# Altium footprint library Capacitor_SMD.PcbLib: 101 footprints (part 6 of 7)
Each footprint in its own frame and in the unit in brackets; x right, y up, seen from the top. Pads: shape width x height; smd on the part's side, far side on the other; paste and mask are expansions set on the pad; w line width, h text height; cw(c..) or ccw(c..) is an arc to the next point about the centre after c.
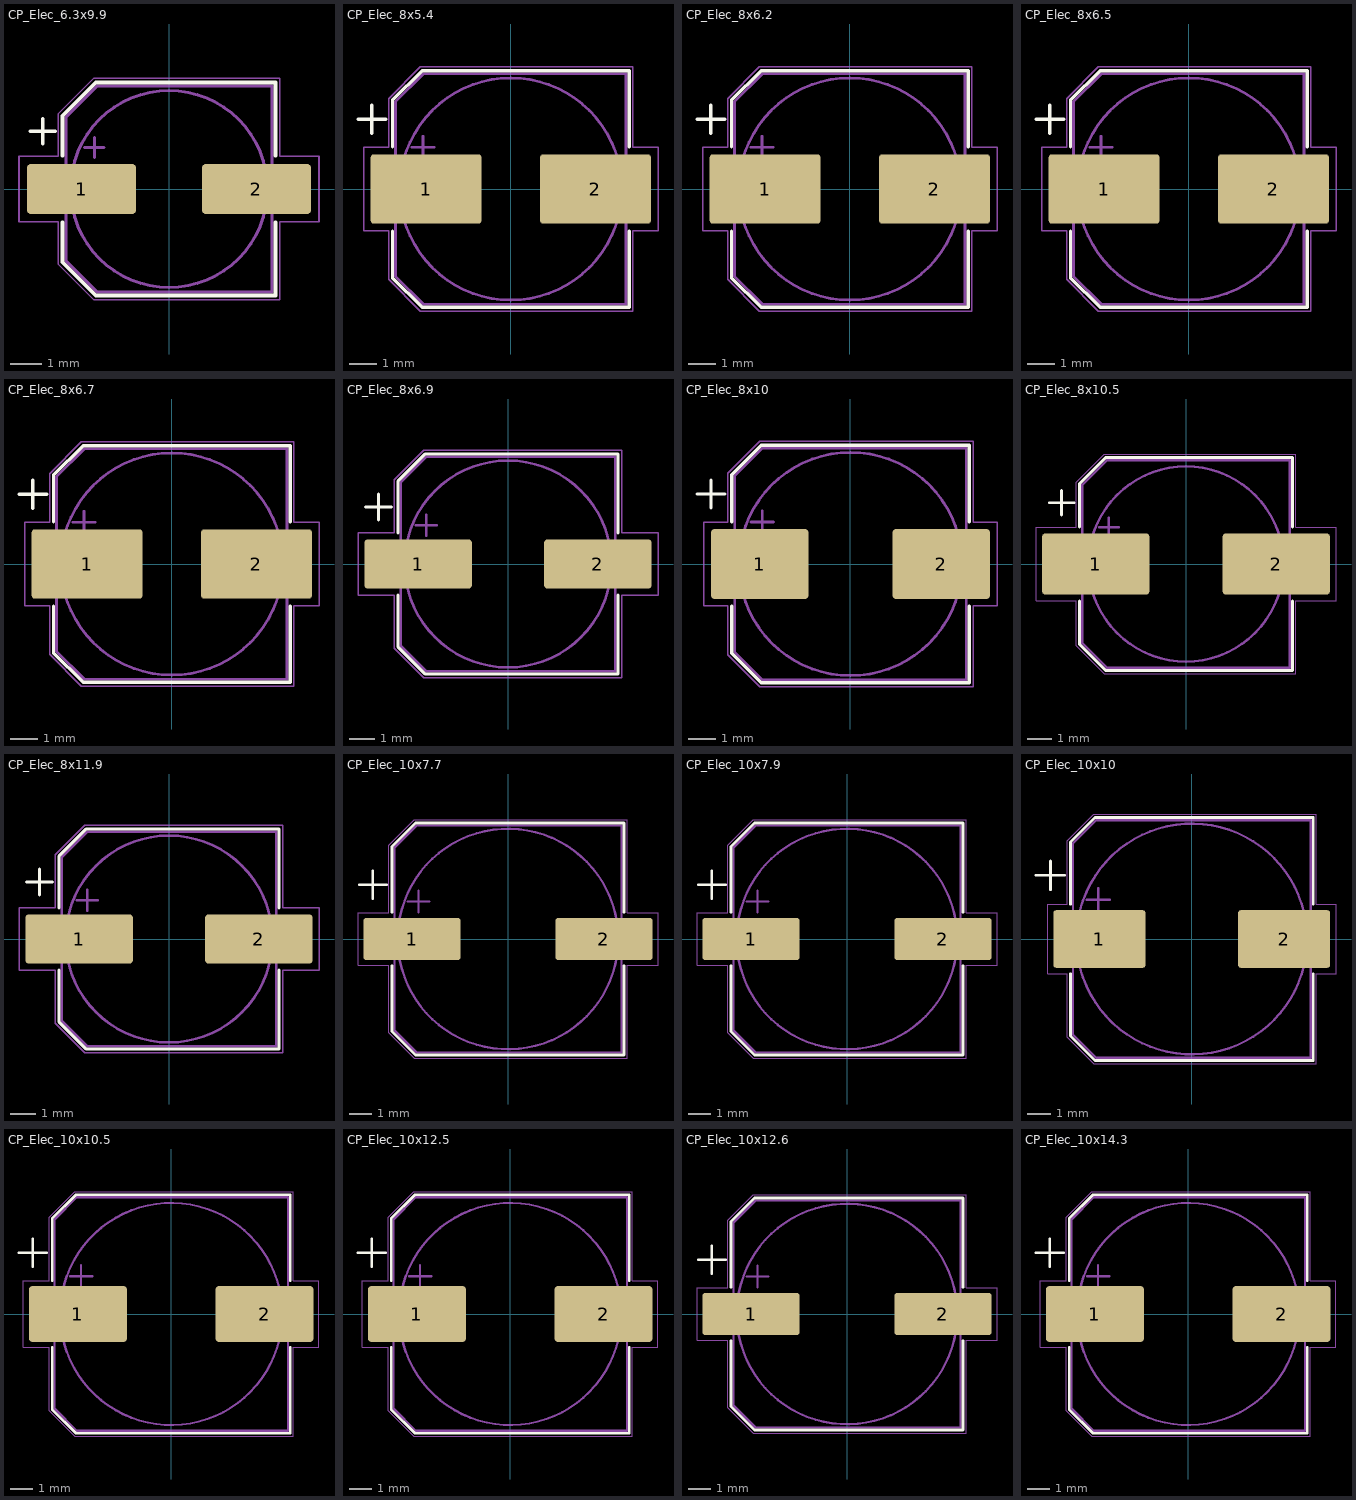
[diagram p5: the footprints below, top view; thin cyan lines are the x and y axes]

## CP_Elec_6.3x9.9 [mm]
pads (2):
  rrect16% 3.5x1.6 smd: 1(-2.8,0) 2(2.8,0)
F.SilkS:
  lines w0.12: -4.437,1.847 -3.65,1.847 ; -4.044,1.454 -4.044,2.241 ; -3.41,-1.06 -3.41,-2.346 -2.346,-3.41 3.41,-3.41 3.41,-1.06 ; -3.41,1.06 -3.41,2.346 -2.346,3.41 3.41,3.41 3.41,1.06
F.CrtYd:
  lines w0.05: -4.8,-1.05 -4.8,1.05 -3.55,1.05 -3.55,2.4 -2.4,3.55 3.55,3.55 3.55,1.05 4.8,1.05 4.8,-1.05 3.55,-1.05 3.55,-3.55 -2.4,-3.55 -3.55,-2.4 -3.55,-1.05 -4.8,-1.05
F.Fab:
  circle w0.1: c0,0 r3.15
  lines w0.1: -2.705,1.33 -2.075,1.33 ; -2.39,1.015 -2.39,1.645 ; -3.3,-2.3 -2.3,-3.3 3.3,-3.3 3.3,3.3 -2.3,3.3 -3.3,2.3 -3.3,-2.3
  text "'.Designator'" at -4.047,-0.84 h1
3D body "CP_Elec_6.3x9.9.step": height 9.9, standoff 0, extent -3.9,-3.3 3.9,3.3

## CP_Elec_8x5.4 [mm]
pads (2):
  rrect10% 4x2.5 smd: 1(-3.05,0) 2(3.05,0)
F.SilkS:
  lines w0.12: -5.5,2.51 -4.5,2.51 ; -5,2.01 -5,3.01 ; -4.26,-1.51 -4.26,-3.196 -3.196,-4.26 4.26,-4.26 4.26,-1.51 ; -4.26,1.51 -4.26,3.196 -3.196,4.26 4.26,4.26 4.26,1.51
F.CrtYd:
  lines w0.05: -5.3,-1.5 -5.3,1.5 -4.4,1.5 -4.4,3.25 -3.25,4.4 4.4,4.4 4.4,1.5 5.3,1.5 5.3,-1.5 4.4,-1.5 4.4,-4.4 -3.25,-4.4 -4.4,-3.25 -4.4,-1.5 -5.3,-1.5
F.Fab:
  circle w0.1: c0,0 r4
  lines w0.1: -3.562,1.5 -2.762,1.5 ; -3.162,1.1 -3.162,1.9 ; -4.15,-3.15 -3.15,-4.15 4.15,-4.15 4.15,4.15 -3.15,4.15 -4.15,3.15 -4.15,-3.15
  text "'.Designator'" at -4.047,-0.84 h1
3D body "CP_Elec_8x5.4.step": height 5.4, standoff 0, extent -4.75,-4.15 4.75,4.15

## CP_Elec_8x6.2 [mm]
pads (2):
  rrect10% 4x2.5 smd: 1(-3.05,0) 2(3.05,0)
F.SilkS:
  lines w0.12: -5.5,2.51 -4.5,2.51 ; -5,2.01 -5,3.01 ; -4.26,-1.51 -4.26,-3.196 -3.196,-4.26 4.26,-4.26 4.26,-1.51 ; -4.26,1.51 -4.26,3.196 -3.196,4.26 4.26,4.26 4.26,1.51
F.CrtYd:
  lines w0.05: -5.3,-1.5 -5.3,1.5 -4.4,1.5 -4.4,3.25 -3.25,4.4 4.4,4.4 4.4,1.5 5.3,1.5 5.3,-1.5 4.4,-1.5 4.4,-4.4 -3.25,-4.4 -4.4,-3.25 -4.4,-1.5 -5.3,-1.5
F.Fab:
  circle w0.1: c0,0 r4
  lines w0.1: -3.562,1.5 -2.762,1.5 ; -3.162,1.1 -3.162,1.9 ; -4.15,-3.15 -3.15,-4.15 4.15,-4.15 4.15,4.15 -3.15,4.15 -4.15,3.15 -4.15,-3.15
  text "'.Designator'" at -4.047,-0.84 h1
3D body "CP_Elec_8x6.2.step": height 6.2, standoff 0, extent -4.75,-4.15 4.75,4.15

## CP_Elec_8x6.5 [mm]
pads (2):
  rrect10% 4x2.5 smd: 1(-3.05,0) 2(3.05,0)
F.SilkS:
  lines w0.12: -5.5,2.51 -4.5,2.51 ; -5,2.01 -5,3.01 ; -4.26,-1.51 -4.26,-3.196 -3.196,-4.26 4.26,-4.26 4.26,-1.51 ; -4.26,1.51 -4.26,3.196 -3.196,4.26 4.26,4.26 4.26,1.51
F.CrtYd:
  lines w0.05: -5.3,-1.5 -4.4,-1.5 -4.4,-3.25 -3.25,-4.4 4.4,-4.4 4.4,-1.5 5.3,-1.5 5.3,1.5 4.4,1.5 4.4,4.4 -3.25,4.4 -4.4,3.25 -4.4,1.5 -5.3,1.5 -5.3,-1.5
F.Fab:
  circle w0.1: c0,0 r4
  lines w0.1: -3.562,1.5 -2.762,1.5 ; -3.162,1.1 -3.162,1.9 ; -4.15,-3.15 -3.15,-4.15 4.15,-4.15 4.15,4.15 -3.15,4.15 -4.15,3.15 -4.15,-3.15
  text "'.Designator'" at -4.047,-0.84 h1
3D body "CP_Elec_8x6.5.step": height 6.5, standoff 0, extent -4.75,-4.15 4.75,4.15

## CP_Elec_8x6.7 [mm]
pads (2):
  rrect10% 4x2.5 smd: 1(-3.05,0) 2(3.05,0)
F.SilkS:
  lines w0.12: -5.5,2.51 -4.5,2.51 ; -5,2.01 -5,3.01 ; -4.26,-1.51 -4.26,-3.196 -3.196,-4.26 4.26,-4.26 4.26,-1.51 ; -4.26,1.51 -4.26,3.196 -3.196,4.26 4.26,4.26 4.26,1.51
F.CrtYd:
  lines w0.05: -5.3,-1.5 -5.3,1.5 -4.4,1.5 -4.4,3.25 -3.25,4.4 4.4,4.4 4.4,1.5 5.3,1.5 5.3,-1.5 4.4,-1.5 4.4,-4.4 -3.25,-4.4 -4.4,-3.25 -4.4,-1.5 -5.3,-1.5
F.Fab:
  circle w0.1: c0,0 r4
  lines w0.1: -3.562,1.5 -2.762,1.5 ; -3.162,1.1 -3.162,1.9 ; -4.15,-3.15 -4.15,3.15 -3.15,4.15 4.15,4.15 4.15,-4.15 -3.15,-4.15 -4.15,-3.15
  text "'.Designator'" at -4.047,-0.84 h1
3D body "CP_Elec_8x6.7.step": height 6.7, standoff 0, extent -4.75,-4.15 4.75,4.15

## CP_Elec_8x6.9 [mm]
pads (2):
  rrect13% 4.15x1.9 smd: 1(-3.475,0) 2(3.475,0)
F.SilkS:
  lines w0.12: -5.5,2.21 -4.5,2.21 ; -5,1.71 -5,2.71 ; -4.26,-1.21 -4.26,-3.196 -3.196,-4.26 4.26,-4.26 4.26,-1.21 ; -4.26,1.21 -4.26,3.196 -3.196,4.26 4.26,4.26 4.26,1.21
F.CrtYd:
  lines w0.05: -5.8,-1.2 -5.8,1.2 -4.4,1.2 -4.4,3.25 -3.25,4.4 4.4,4.4 4.4,1.2 5.8,1.2 5.8,-1.2 4.4,-1.2 4.4,-4.4 -3.25,-4.4 -4.4,-3.25 -4.4,-1.2 -5.8,-1.2
F.Fab:
  circle w0.1: c0,0 r4
  lines w0.1: -3.562,1.5 -2.762,1.5 ; -3.162,1.1 -3.162,1.9 ; -4.15,-3.15 -4.15,3.15 -3.15,4.15 4.15,4.15 4.15,-4.15 -3.15,-4.15 -4.15,-3.15
  text "'.Designator'" at -4.047,-0.84 h1
3D body "CP_Elec_8x6.9.step": height 6.9, standoff 0, extent -4.75,-4.15 4.75,4.15

## CP_Elec_8x10 [mm]
pads (2):
  rrect10% 3.5x2.5 smd: 1(-3.25,0) 2(3.25,0)
F.SilkS:
  lines w0.12: -5.5,2.51 -4.5,2.51 ; -5,2.01 -5,3.01 ; -4.26,-1.51 -4.26,-3.196 -3.196,-4.26 4.26,-4.26 4.26,-1.51 ; -4.26,1.51 -4.26,3.196 -3.196,4.26 4.26,4.26 4.26,1.51
F.CrtYd:
  lines w0.05: -5.25,-1.5 -5.25,1.5 -4.4,1.5 -4.4,3.25 -3.25,4.4 4.4,4.4 4.4,1.5 5.25,1.5 5.25,-1.5 4.4,-1.5 4.4,-4.4 -3.25,-4.4 -4.4,-3.25 -4.4,-1.5 -5.25,-1.5
F.Fab:
  circle w0.1: c0,0 r4
  lines w0.1: -3.562,1.5 -2.762,1.5 ; -3.162,1.1 -3.162,1.9 ; -4.15,-3.15 -3.15,-4.15 4.15,-4.15 4.15,4.15 -3.15,4.15 -4.15,3.15 -4.15,-3.15
  text "'.Designator'" at -4.047,-0.84 h1
3D body "CP_Elec_8x10.step": height 10, standoff 0, extent -4.812,-4.142 4.688,4.158

## CP_Elec_8x10.5 [mm]
pads (2):
  rrect10% 4.4x2.5 smd: 1(-3.7,0) 2(3.7,0)
F.SilkS:
  lines w0.12: -5.6,2.51 -4.6,2.51 ; -5.1,2.01 -5.1,3.01 ; -4.36,-1.51 -4.36,-3.296 -3.296,-4.36 4.36,-4.36 4.36,-1.51 ; -4.36,1.51 -4.36,3.296 -3.296,4.36 4.36,4.36 4.36,1.51
F.CrtYd:
  lines w0.05: -6.15,-1.5 -4.5,-1.5 -4.5,-3.35 -3.35,-4.5 4.5,-4.5 4.5,-1.5 6.15,-1.5 6.15,1.5 4.5,1.5 4.5,4.5 -3.35,4.5 -4.5,3.35 -4.5,1.5 -6.15,1.5 -6.15,-1.5
F.Fab:
  circle w0.1: c0,0 r4
  lines w0.1: -3.562,1.5 -2.762,1.5 ; -3.162,1.1 -3.162,1.9 ; -4.25,-3.25 -4.25,3.25 -3.25,4.25 4.25,4.25 4.25,-4.25 -3.25,-4.25 -4.25,-3.25
  text "'.Designator'" at -4.047,-0.84 h1
3D body "CP_Elec_8x10.5.step": height 10.5, standoff 0, extent -4.75,-4.15 4.75,4.15

## CP_Elec_8x11.9 [mm]
pads (2):
  rrect13% 4.15x1.9 smd: 1(-3.475,0) 2(3.475,0)
F.SilkS:
  lines w0.12: -5.5,2.21 -4.5,2.21 ; -5,1.71 -5,2.71 ; -4.26,-1.21 -4.26,-3.196 -3.196,-4.26 4.26,-4.26 4.26,-1.21 ; -4.26,1.21 -4.26,3.196 -3.196,4.26 4.26,4.26 4.26,1.21
F.CrtYd:
  lines w0.05: -5.8,-1.2 -5.8,1.2 -4.4,1.2 -4.4,3.25 -3.25,4.4 4.4,4.4 4.4,1.2 5.8,1.2 5.8,-1.2 4.4,-1.2 4.4,-4.4 -3.25,-4.4 -4.4,-3.25 -4.4,-1.2 -5.8,-1.2
F.Fab:
  circle w0.1: c0,0 r4
  lines w0.1: -3.562,1.5 -2.762,1.5 ; -3.162,1.1 -3.162,1.9 ; -4.15,-3.15 -4.15,3.15 -3.15,4.15 4.15,4.15 4.15,-4.15 -3.15,-4.15 -4.15,-3.15
  text "'.Designator'" at -4.047,-0.84 h1
3D body "CP_Elec_8x11.9.step": height 11.9, standoff 0, extent -4.75,-4.15 4.75,4.15

## CP_Elec_10x7.7 [mm]
pads (2):
  rrect13% 4.4x1.9 smd: 1(-4.35,0) 2(4.35,0)
F.SilkS:
  lines w0.12: -6.75,2.46 -5.5,2.46 ; -6.125,1.835 -6.125,3.085 ; -5.26,-1.21 -5.26,-4.196 -4.196,-5.26 5.26,-5.26 5.26,-1.21 ; -5.26,1.21 -5.26,4.196 -4.196,5.26 5.26,5.26 5.26,1.21
F.CrtYd:
  lines w0.05: -6.8,-1.2 -6.8,1.2 -5.4,1.2 -5.4,4.25 -4.25,5.4 5.4,5.4 5.4,1.2 6.8,1.2 6.8,-1.2 5.4,-1.2 5.4,-5.4 -4.25,-5.4 -5.4,-4.25 -5.4,-1.2 -6.8,-1.2
F.Fab:
  circle w0.1: c0,0 r5
  lines w0.1: -4.558,1.7 -3.558,1.7 ; -4.058,1.2 -4.058,2.2 ; -5.15,-4.15 -4.15,-5.15 5.15,-5.15 5.15,5.15 -4.15,5.15 -5.15,4.15 -5.15,-4.15
  text "'.Designator'" at -4.047,-0.84 h1
3D body "CP_Elec_10x7.7.step": height 7.7, standoff 0, extent -6,-5.15 6,5.15

## CP_Elec_10x7.9 [mm]
pads (2):
  rrect13% 4.4x1.9 smd: 1(-4.35,0) 2(4.35,0)
F.SilkS:
  lines w0.12: -6.75,2.46 -5.5,2.46 ; -6.125,1.835 -6.125,3.085 ; -5.26,-1.21 -5.26,-4.196 -4.196,-5.26 5.26,-5.26 5.26,-1.21 ; -5.26,1.21 -5.26,4.196 -4.196,5.26 5.26,5.26 5.26,1.21
F.CrtYd:
  lines w0.05: -6.8,-1.2 -6.8,1.2 -5.4,1.2 -5.4,4.25 -4.25,5.4 5.4,5.4 5.4,1.2 6.8,1.2 6.8,-1.2 5.4,-1.2 5.4,-5.4 -4.25,-5.4 -5.4,-4.25 -5.4,-1.2 -6.8,-1.2
F.Fab:
  circle w0.1: c0,0 r5
  lines w0.1: -4.558,1.7 -3.558,1.7 ; -4.058,1.2 -4.058,2.2 ; -5.15,-4.15 -4.15,-5.15 5.15,-5.15 5.15,5.15 -4.15,5.15 -5.15,4.15 -5.15,-4.15
  text "'.Designator'" at -4.047,-0.84 h1
3D body "CP_Elec_10x7.9.step": height 7.9, standoff 0, extent -6,-5.15 6,5.15

## CP_Elec_10x10 [mm]
pads (2):
  rrect10% 4x2.5 smd: 1(-4,0) 2(4,0)
F.SilkS:
  lines w0.12: -6.75,2.76 -5.5,2.76 ; -6.125,2.135 -6.125,3.385 ; -5.26,-1.51 -5.26,-4.196 -4.196,-5.26 5.26,-5.26 5.26,-1.51 ; -5.26,1.51 -5.26,4.196 -4.196,5.26 5.26,5.26 5.26,1.51
F.CrtYd:
  lines w0.05: -6.25,-1.5 -5.4,-1.5 -5.4,-4.25 -4.25,-5.4 5.4,-5.4 5.4,-1.5 6.25,-1.5 6.25,1.5 5.4,1.5 5.4,5.4 -4.25,5.4 -5.4,4.25 -5.4,1.5 -6.25,1.5 -6.25,-1.5
F.Fab:
  circle w0.1: c0,0 r5
  lines w0.1: -4.558,1.7 -3.558,1.7 ; -4.058,1.2 -4.058,2.2 ; -5.15,-4.15 -4.15,-5.15 5.15,-5.15 5.15,5.15 -4.15,5.15 -5.15,4.15 -5.15,-4.15
  text "'.Designator'" at -4.047,-0.84 h1
3D body "CP_Elec_10x10.step": height 10, standoff 0, extent -6,-5.15 6,5.15

## CP_Elec_10x10.5 [mm]
pads (2):
  rrect10% 4.4x2.5 smd: 1(-4.2,0) 2(4.2,0)
F.SilkS:
  lines w0.12: -6.85,2.76 -5.6,2.76 ; -6.225,2.135 -6.225,3.385 ; -5.36,-1.51 -5.36,-4.296 -4.296,-5.36 5.36,-5.36 5.36,-1.51 ; -5.36,1.51 -5.36,4.296 -4.296,5.36 5.36,5.36 5.36,1.51
F.CrtYd:
  lines w0.05: -6.65,-1.5 -6.65,1.5 -5.5,1.5 -5.5,4.35 -4.35,5.5 5.5,5.5 5.5,1.5 6.65,1.5 6.65,-1.5 5.5,-1.5 5.5,-5.5 -4.35,-5.5 -5.5,-4.35 -5.5,-1.5 -6.65,-1.5
F.Fab:
  circle w0.1: c0,0 r5
  lines w0.1: -4.558,1.7 -3.558,1.7 ; -4.058,1.2 -4.058,2.2 ; -5.25,-4.25 -5.25,4.25 -4.25,5.25 5.25,5.25 5.25,-5.25 -4.25,-5.25 -5.25,-4.25
  text "'.Designator'" at -4.047,-0.84 h1
3D body "CP_Elec_10x10.5.step": height 10.5, standoff 0, extent -6,-5.15 6,5.15

## CP_Elec_10x12.5 [mm]
pads (2):
  rrect10% 4.4x2.5 smd: 1(-4.2,0) 2(4.2,0)
F.SilkS:
  lines w0.12: -6.85,2.76 -5.6,2.76 ; -6.225,2.135 -6.225,3.385 ; -5.36,-1.51 -5.36,-4.296 -4.296,-5.36 5.36,-5.36 5.36,-1.51 ; -5.36,1.51 -5.36,4.296 -4.296,5.36 5.36,5.36 5.36,1.51
F.CrtYd:
  lines w0.05: -6.65,-1.5 -5.5,-1.5 -5.5,-4.35 -4.35,-5.5 5.5,-5.5 5.5,-1.5 6.65,-1.5 6.65,1.5 5.5,1.5 5.5,5.5 -4.35,5.5 -5.5,4.35 -5.5,1.5 -6.65,1.5 -6.65,-1.5
F.Fab:
  circle w0.1: c0,0 r5
  lines w0.1: -4.558,1.7 -3.558,1.7 ; -4.058,1.2 -4.058,2.2 ; -5.25,-4.25 -5.25,4.25 -4.25,5.25 5.25,5.25 5.25,-5.25 -4.25,-5.25 -5.25,-4.25
  text "'.Designator'" at -4.047,-0.84 h1
3D body "CP_Elec_10x12.5.step": height 12.5, standoff 0, extent -6,-5.15 6,5.15

## CP_Elec_10x12.6 [mm]
pads (2):
  rrect13% 4.4x1.9 smd: 1(-4.35,0) 2(4.35,0)
F.SilkS:
  lines w0.12: -6.75,2.46 -5.5,2.46 ; -6.125,1.835 -6.125,3.085 ; -5.26,-1.21 -5.26,-4.196 -4.196,-5.26 5.26,-5.26 5.26,-1.21 ; -5.26,1.21 -5.26,4.196 -4.196,5.26 5.26,5.26 5.26,1.21
F.CrtYd:
  lines w0.05: -6.8,-1.2 -6.8,1.2 -5.4,1.2 -5.4,4.25 -4.25,5.4 5.4,5.4 5.4,1.2 6.8,1.2 6.8,-1.2 5.4,-1.2 5.4,-5.4 -4.25,-5.4 -5.4,-4.25 -5.4,-1.2 -6.8,-1.2
F.Fab:
  circle w0.1: c0,0 r5
  lines w0.1: -4.558,1.7 -3.558,1.7 ; -4.058,1.2 -4.058,2.2 ; -5.15,-4.15 -5.15,4.15 -4.15,5.15 5.15,5.15 5.15,-5.15 -4.15,-5.15 -5.15,-4.15
  text "'.Designator'" at -4.047,-0.84 h1
3D body "CP_Elec_10x12.6.step": height 12.6, standoff 0, extent -6,-5.15 6,5.15

## CP_Elec_10x14.3 [mm]
pads (2):
  rrect10% 4.4x2.5 smd: 1(-4.2,0) 2(4.2,0)
F.SilkS:
  lines w0.12: -6.85,2.76 -5.6,2.76 ; -6.225,2.135 -6.225,3.385 ; -5.36,-1.51 -5.36,-4.296 -4.296,-5.36 5.36,-5.36 5.36,-1.51 ; -5.36,1.51 -5.36,4.296 -4.296,5.36 5.36,5.36 5.36,1.51
F.CrtYd:
  lines w0.05: -6.65,-1.5 -6.65,1.5 -5.5,1.5 -5.5,4.35 -4.35,5.5 5.5,5.5 5.5,1.5 6.65,1.5 6.65,-1.5 5.5,-1.5 5.5,-5.5 -4.35,-5.5 -5.5,-4.35 -5.5,-1.5 -6.65,-1.5
F.Fab:
  circle w0.1: c0,0 r5
  lines w0.1: -4.558,1.7 -3.558,1.7 ; -4.058,1.2 -4.058,2.2 ; -5.25,-4.25 -5.25,4.25 -4.25,5.25 5.25,5.25 5.25,-5.25 -4.25,-5.25 -5.25,-4.25
  text "'.Designator'" at -4.047,-0.84 h1
3D body "CP_Elec_10x14.3.step": height 14.3, standoff 0, extent -6,-5.15 6,5.15